# EAGLE library part TUSB1106PWR (library TUSB1106PWR)
Texas Instruments TUSB1106PWR, USB Transceiver, USB 2.0 at 12Mbit/s, 3.3 V, 5 V, 16-Pin TSSOP Source: Datasheet <http://www.ti.com/lit/gpn/tusb1106>
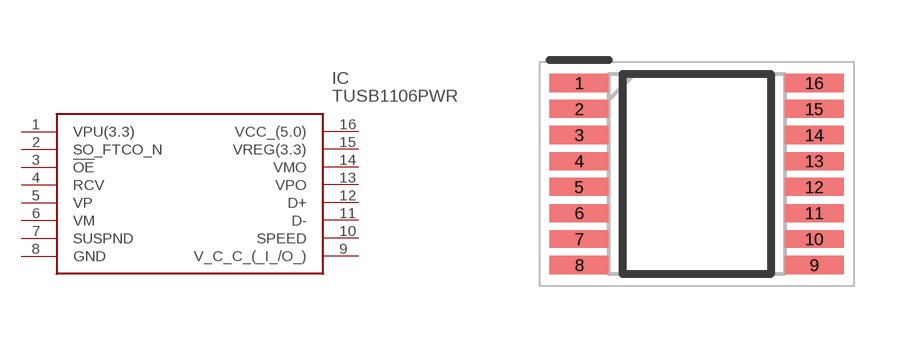
[diagram p0: symbol with the pads of SOP65P640X120-16N; footprint SOP65P640X120-16N]

Designator prefix IC

## TUSB1106PWR (Description: Texas Instruments TUSB1106PWR, USB Transceiver, USB 2.0 at 12Mbit/s, 3.3 V, 5 V, 16-Pin TSSOP; Height: 1.2mm; Manufacturer_Name: Texas Instruments; Manufacturer_Part_Number: TUSB1106PWR; Mouser_Part_Number: 595-TUSB1106PWR; Mouser_Price-Stock: https://www.mouser.co.uk/ProductDetail/Texas-Instruments/TUSB1106PWR?qs=7kv20MEVUlg2%2FxFfZrfm%2FA%3D%3D)  [SOP65P640X120-16N]
1  VPU(3.3)
2  SO_FTCO_N
3  !OE
4  RCV
5  VP
6  VM
7  SUSPND
8  GND
9  V_C_C_(_I_/O_)
10  SPEED
11  D-
12  D+
13  VPO
14  VMO
15  VREG(3.3)
16  VCC_(5.0)

## Footprint SOP65P640X120-16N (pad centres in mm)
PW
smd 1.475 x 0.45: 1 -2.938,2.275; 2 -2.938,1.625; 3 -2.938,0.975; 4 -2.938,0.325; 5 -2.938,-0.325; 6 -2.938,-0.975; 7 -2.938,-1.625; 8 -2.938,-2.275; 9 2.938,-2.275; 10 2.938,-1.625; 11 2.938,-0.975; 12 2.938,-0.325; 13 2.938,0.325; 14 2.938,0.975; 15 2.938,1.625; 16 2.938,2.275